# Altium schematic symbol library Loader.SchLib: 1 symbol
Pins are listed as number, name and electrical type; pins without a type are passive.

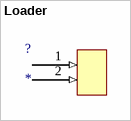
[diagram p0: symbol Loader]

## Loader
designator ?
footprint Loader
pins: 1 (in), 2 (in)